# EAGLE library part TDA7429S_SURFACE (library ATK_lib)
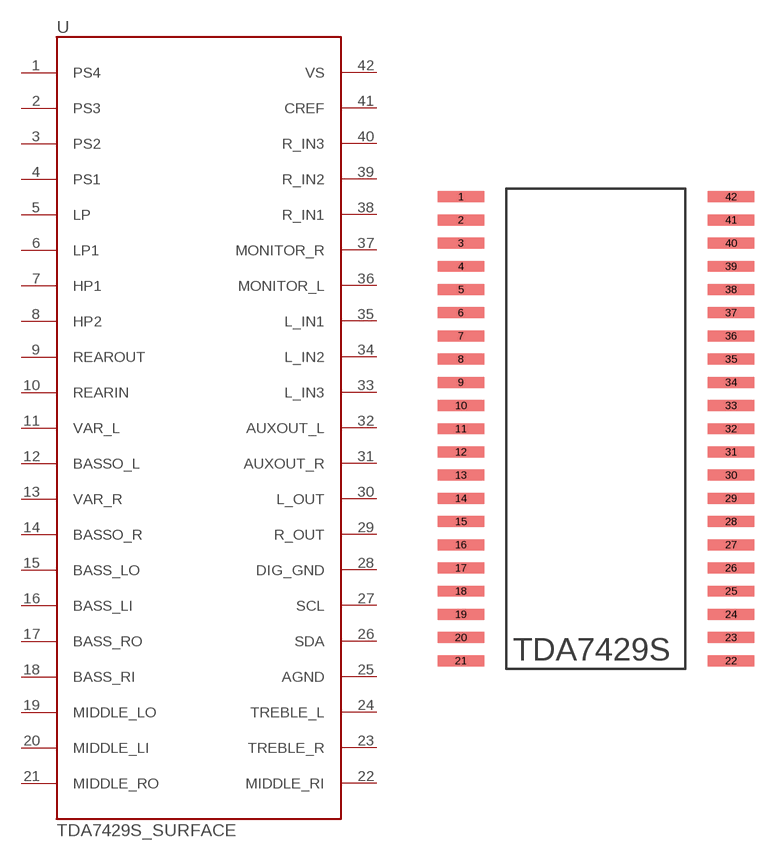
[diagram p1: symbol with the pads of SDIP42_SURFACE; footprint SDIP42_SURFACE]

Designator prefix -

## TDA7429S_SURFACE  [SDIP42_SURFACE]
1  PS4
2  PS3
3  PS2
4  PS1
5  LP
6  LP1
7  HP1
8  HP2
9  REAROUT
10  REARIN
11  VAR_L
12  BASSO_L
13  VAR_R
14  BASSO_R
15  BASS_LO
16  BASS_LI
17  BASS_RO
18  BASS_RI
19  MIDDLE_LO
20  MIDDLE_LI
21  MIDDLE_RO
22  MIDDLE_RI
23  TREBLE_R
24  TREBLE_L
25  AGND
26  SDA
27  SCL
28  DIG_GND
29  R_OUT
30  L_OUT
31  AUXOUT_R
32  AUXOUT_L
33  L_IN3
34  L_IN2
35  L_IN1
36  MONITOR_L
37  MONITOR_R
38  R_IN1
39  R_IN2
40  R_IN3
41  CREF
42  VS

## Footprint SDIP42_SURFACE (pad centres in mm)
smd 3.556 x 0.838: 1 -10.351,17.78; 2 -10.351,16.002; 3 -10.351,14.224; 4 -10.351,12.446; 5 -10.351,10.668; 6 -10.351,8.89; 7 -10.351,7.112; 8 -10.351,5.334; 9 -10.351,3.556; 10 -10.351,1.778; 11 -10.351,0; 12 -10.351,-1.778; 13 -10.351,-3.556; 14 -10.351,-5.334; 15 -10.351,-7.112; 16 -10.351,-8.89; 17 -10.351,-10.668; 18 -10.351,-12.446; 19 -10.351,-14.224; 20 -10.351,-16.002; 21 -10.351,-17.78; 22 10.351,-17.78; 23 10.351,-16.002; 24 10.351,-14.224; 25 10.351,-12.446; 26 10.351,-10.668; 27 10.351,-8.89; 28 10.351,-7.112; 29 10.351,-5.334; 30 10.351,-3.556; 31 10.351,-1.778; 32 10.351,0; 33 10.351,1.778; 34 10.351,3.556; 35 10.351,5.334; 36 10.351,7.112; 37 10.351,8.89; 38 10.351,10.668; 39 10.351,12.446; 40 10.351,14.224; 41 10.351,16.002; 42 10.351,17.78